# Altium footprint library inductor.PcbLib: 1 footprints
Each footprint in its own frame and in the unit in brackets; x right, y up, seen from the top. Pads: shape width x height; smd on the part's side, far side on the other; paste and mask are expansions set on the pad; w line width, h text height; cw(c..) or ccw(c..) is an arc to the next point about the centre after c.
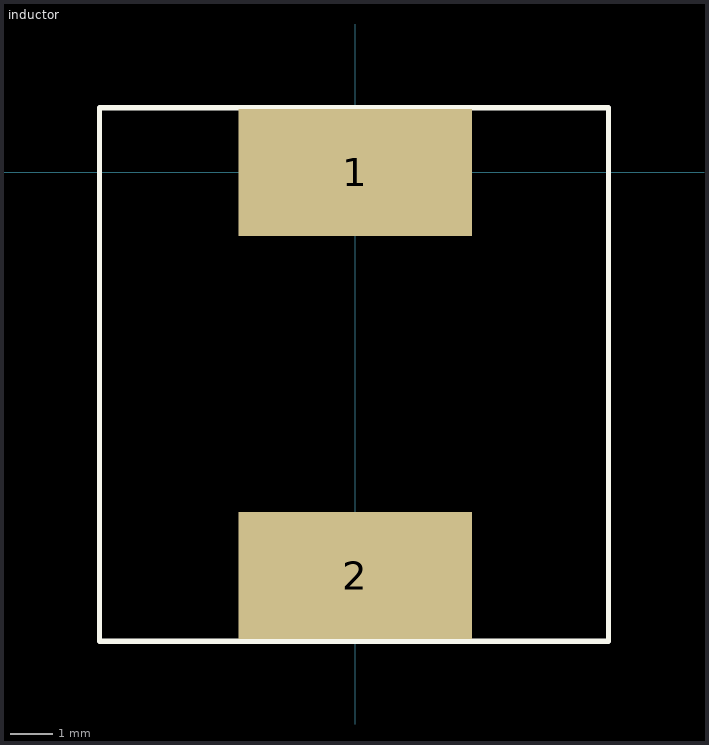
[diagram p0: the footprint, top view; thin cyan lines are the x and y axes]

## inductor [mm]
pads (2):
  rect 5.5x3 smd: 1(0,0) 2(0,-9.5)
Top Overlay:
  lines w0.127: -6.031,-11.049 5.969,-11.049 5.969,1.524 -6.031,1.524 -6.031,-11.049